# Altium integrated library Connectors.IntLib: 16 symbols
Pins are listed as number, name and electrical type; pins without a type are passive.

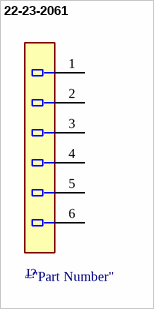
[diagram p0: symbol 22-23-2061]

## 22-23-2061
designator J?  (value not drawn)
footprint Molex_22-23-2061_0
pins: 1, 2, 3, 4, 5, 6


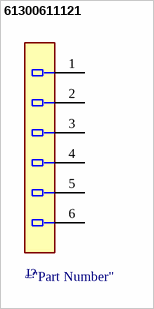
[diagram p1: symbol 61300611121]

## 61300611121
designator J?  (value not drawn)
footprint Wurth_61300611121_0
pins: 1, 2, 3, 4, 5, 6


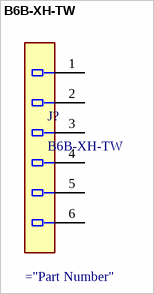
[diagram p2: symbol B6B-XH-TW]

## B6B-XH-TW
designator J?
footprint B6B-XH-TW
pins: 1, 2, 3, 4, 5, 6


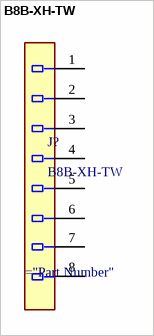
[diagram p3: symbol B8B-XH-TW]

## B8B-XH-TW
designator J?
footprint B8B-XH-TW
pins: 1, 2, 3, 4, 5, 6, 7, 8


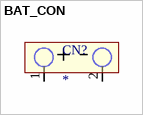
[diagram p4: symbol BAT_CON]

## BAT_CON
designator CN?
Batarey_connection
footprint Batarey_connector
footprint FP-PRT-10474-MFG
pins: 1 +, 2 -


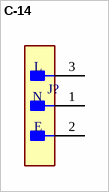
[diagram p5: symbol C-14]

## C-14
designator J?, comment L-PE-N  (value not drawn)
footprint L-PE-N_Connector_C-14
footprint L-PE-N_Connector_C-14_Qualtec
pins: 1 N, 2 E, 3 L


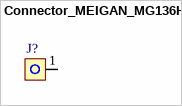
[diagram p6: symbol Connector_MEIGAN_MG136HT]

## Connector_MEIGAN_MG136HT
designator J?, comment MG_136_HT  (value not drawn)
footprint Conn_MEIGAN_MG136HT
pins: 1 17


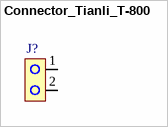
[diagram p7: symbol Connector_Tianli_T-800]

## Connector_Tianli_T-800
designator J?, comment TL-800  (value not drawn)
footprint Conn_Tianli_T-800
pins: 1 17, 2


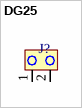
[diagram p8: symbol DG25]

## DG25
designator J?, comment DEGSON  (value not drawn)
footprint DEGSON_DG25
pins: 1, 2


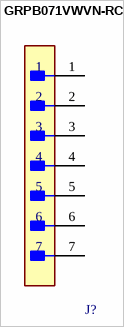
[diagram p9: symbol GRPB071VWVN-RC]

## GRPB071VWVN-RC
designator J?  (value not drawn)
footprint Sullins_0_MFG
pins: 1, 2, 3, 4, 5, 6, 7


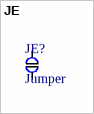
[diagram p10: symbol JE]

## JE
designator JE?, comment Jumper
footprint JE
pins: 1, 2


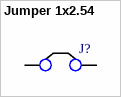
[diagram p11: symbol Jumper 1x2.54]

## Jumper 1x2.54
designator J?  (value not drawn)
footprint Jumper_2.54
pins: 1, 2


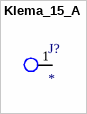
[diagram p12: symbol Klema_15_A]

## Klema_15_A
designator J?
footprint Klema_PCB_15A
footprint Klema_100A
footprint Connector_6mm
pins: 1 0


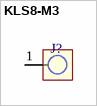
[diagram p13: symbol KLS8-M3]

## KLS8-M3
designator J?  (value not drawn)
footprint KLS8-M3
pins: 1


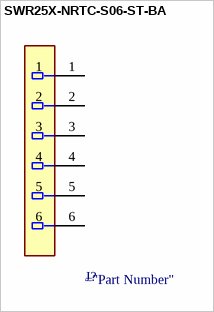
[diagram p14: symbol SWR25X-NRTC-S06-ST-BA]

## SWR25X-NRTC-S06-ST-BA
designator J?  (value not drawn)
footprint Sullins_SWR25X-NRTC-S06-ST-BA_MFG
pins: 1, 2, 3, 4, 5, 6


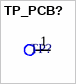
[diagram p15: symbol TP_PCB?]

## TP_PCB?
designator TP?, comment Test_Point_PCB  (value not drawn)
Test_Point
footprint Test_Point
footprint Pin_Test_Point(Pink)
footprint Pin_Test_Point(Orange)
pins: 1 G9